# EAGLE library part INTEGRATED_PROGRAMMING_INTERFACE (library IPI)
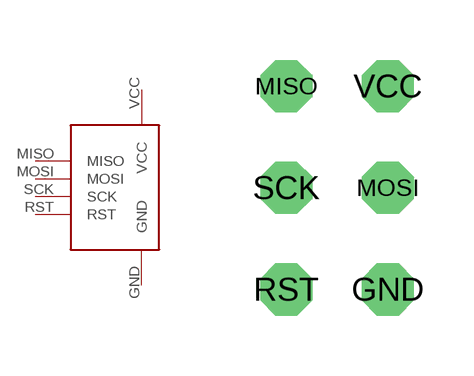
[diagram p0: symbol with the pads of 6PIN_HEADER; footprint 6PIN_HEADER]

Designator prefix -

## INTEGRATED_PROGRAMMING_INTERFACE  [6PIN_HEADER]
GND  GND
MISO  MISO
MOSI  MOSI
RST  RST
SCK  SCK
VCC  VCC

## Footprint 6PIN_HEADER (pad centres in mm)
drill 0.8 octagon: GND 1.27,-2.54; MISO -1.27,2.54; MOSI 1.27,0; RST -1.27,-2.54; SCK -1.27,0; VCC 1.27,2.54